# Altium schematic symbol library 降压稳压器.SchLib: 9 symbols
Pins are listed as number, name and electrical type; pins without a type are passive.

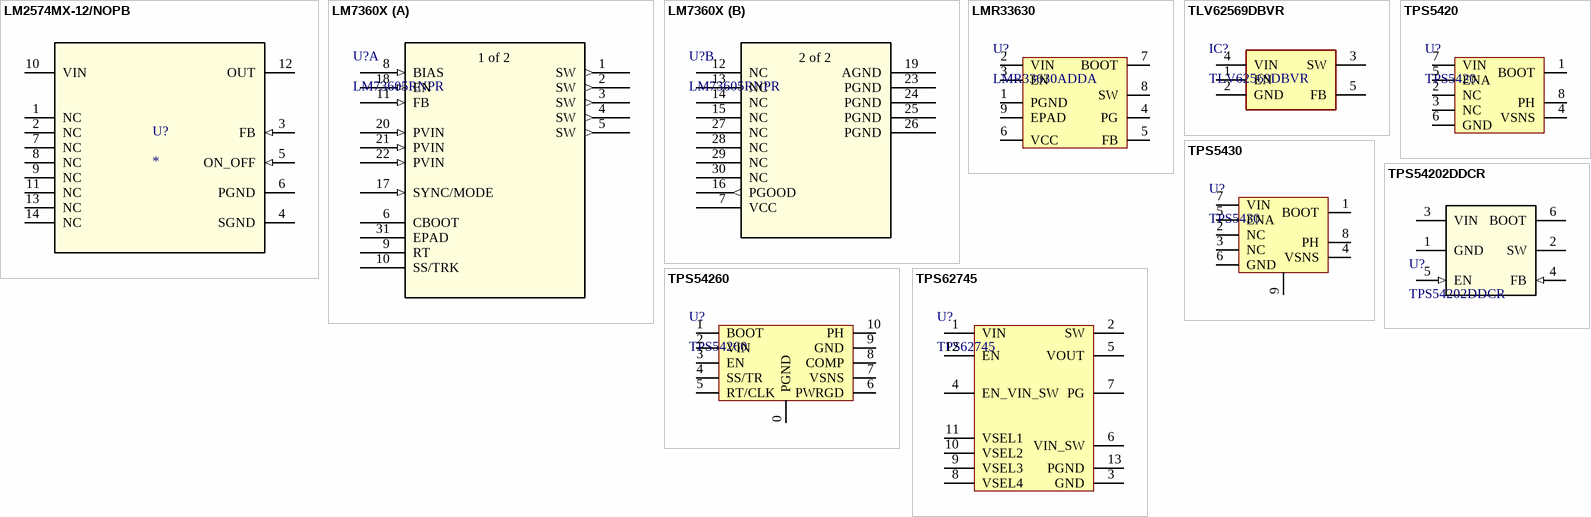
[diagram p0: symbols LM2574MX-12/NOPB to TPS62745]

## LM2574MX-12/NOPB
designator U?
LM2574x SIMPLE SWITCHER® 0.5A 降压稳压器; PartNumber: LM2574MX-12/NOPB; Manufacturer: Texas Instruments; Revised By: Z_xiao; RefDes: RefDes; Type: DEV; Value: Value; Copyright: Copyright (C) 2021 Accelerated Designs. All rights reserved; ComponentLink1Description: DataSheet
footprint NPA0014B_N
footprint NPA0014B_M
footprint NPA0014B_L
pins: 1 NC, 2 NC, 3 FB (in), 4 SGND (power), 5 ON_OFF (in), 6 PGND (power), 7 NC, 8 NC, 9 NC, 10 VIN (power), 11 NC, 12 OUT (power), 13 NC, 14 NC

## LM7360X
designator U?, comment LM73605RNPR
3.5V 至 36V、5A 或 6A 同步 / 降压转换器; Manufacturer_Part_Number: LM73606RNPR; Vendor: Texas Instruments; SourceLibrary: TI_2019-05-21; Revised By: Z_xiao; Copyright: Copyright (C) 2018 Accelerated Designs. All rights reserved; RefDes: RefDes; Type: DEV; ComponentLink1Description: DataSheet
footprint RNP30_TEX-M
footprint RNP30_TEX-L
footprint RNP30_TEX
part A pins: 1 SW (out), 2 SW (out), 3 SW (out), 4 SW (out), 5 SW (out), 6 CBOOT, 8 BIAS (in), 9 RT, 10 SS/TRK, 11 FB (in), 17 SYNC/MODE (in), 18 EN (in), 20 PVIN (in), 21 PVIN (in), 22 PVIN (in), 31 EPAD
part B pins: 7 VCC (power), 12 NC, 13 NC, 14 NC, 15 NC, 16 PGOOD (out), 19 AGND (power), 23 PGND (power), 24 PGND (power), 25 PGND (power), 26 PGND (power), 27 NC, 28 NC, 29 NC, 30 NC
part A text: 1 of 2
part B text: 2 of 2

## LMR33630
designator U?, comment LMR33630ADDA
LMR33630 SIMPLE SWITCHER® 3.8V 至 36V、 3A / 同步降压转换器; Revised By: Z_xiao; ComponentLink1Description: DataSheet
footprint ESOP8_N (5*6*1.8mm（长宽高）)
footprint ESOP8_M (5*6*1.8mm（长宽高）)
footprint ESOP8_L (5*6*1.8mm（长宽高）)
pins: 1 PGND, 2 VIN, 3 EN, 4 PG, 5 FB, 6 VCC, 7 BOOT, 8 SW, 9 EPAD

## TLV62569DBVR
designator IC?
TLV62569采采用用SOT封封装装的的2A高高效效同同步步降降压压转转换换器; Manufacturer_Name: Texas Instruments; Description: 2.5V-5.5V input; Datasheet Link: http://www.ti.com/lit/gpn/tlv62569; Height: 1.45mm; Manufacturer_Part_Number: TLV62569DBVR; Mouser Part Number: 595-TLV62569DBVR; Mouser Price/Stock: https://www.mouser.co.uk/ProductDetail/Texas-Instruments/TLV62569DBVR?qs=0C8XhJW8e4oaylc%252BzBrCmA%3D%3D; Arrow Part Number: TLV62569DBVR; Arrow Price/Stock: https://www.arrow.com/en/products/tlv62569dbvr/texas-instruments?utm_currency=USD&region=nac
footprint SOT95P280X145-5N
pins: 1 EN, 2 GND, 3 SW, 4 VIN, 5 FB

## TPS5420
designator U?
2-A，宽输入范围，降压变换器; Revised By: Z_xiao; ComponentLink1Description: DataSheet
footprint SOP8_L (5*6*1.8mm（长宽高）)
footprint SOP8_M (5*6*1.8mm（长宽高）)
footprint SOP8_N (5*6*1.8mm（长宽高）)
pins: 1 BOOT, 2 NC, 3 NC, 4 VSNS, 5 ENA, 6 GND, 7 VIN, 8 PH

## TPS5430
designator U?
TPS543x 3-A，宽输入范围，降压转换器; Revised By: Z_xiao; ComponentLink1Description: DataSheet
footprint ESOP8_L (5*6*1.8mm（长宽高）)
footprint ESOP8_M (5*6*1.8mm（长宽高）)
footprint ESOP8_N (5*6*1.8mm（长宽高）)
pins: 1 BOOT, 2 NC, 3 NC, 4 VSNS, 5 ENA, 6 GND, 7 VIN, 8 PH, 9

## TPS54202DDCR
designator U?
TPS54202 4.5V 至 28V 输入、2A 输出、EMI 友好型同步降压转换器; Mfr_Name: Texas Instruments; Revised By: Z_xiao; Type: DEV; RefDes: RefDes; Copyright: Copyright (C) 2022 Ultra Librarian. All rights reserved.; Manufacturer_Part_Number: TPS54202DDCR; ComponentLink1Description: DataSheet; ComponentLink1URL: https://www.ti.com.cn/cn/lit/ds/symlink/tps54202.pdf?ts=1666328102946&ref_url=https%253A%252F%252Fwww.ti.com.cn%252Fproduct%252Fzh-cn%252FTPS54202%253FkeyMatch%253DTPS54202DDCR%2526tisearch%253Dsearch-everything%2526usecase%253DOPN
footprint DDC0006A_N
footprint DDC0006A_M
footprint DDC0006A_L
pins: 1 GND (power), 2 SW (power), 3 VIN (power), 4 FB (in), 5 EN (in), 6 BOOT (power)

## TPS54260
designator U?
具有集成高侧MOSFET 的 / 60V、2.5A 降压稳压器; Revised By: Z_xiao; ComponentLink1Description: DataSheet
footprint MSOP10_M - 0 (塑封体长3mm，宽3mm，脚距0.5)
pins: 0 PGND, 1 BOOT, 2 VIN, 3 EN, 4 SS/TR, 5 RT/CLK, 6 PWRGD, 7 VSNS, 8 COMP, 9 GND, 10 PH

## TPS62745
designator U?
面向低功耗无线应用的双节超低 IQ 降压转换器; Revised By: Z_xiao; ComponentLink1Description: DataSheet
footprint TPS62745
pins: 1 VIN, 2 SW, 3 GND, 4 EN_VIN_SW, 5 VOUT, 6 VIN_SW, 7 PG, 8 VSEL4, 9 VSEL3, 10 VSEL2, 11 VSEL1, 12 EN, 13 PGND